# Altium schematic symbol library MPU-6050.SchLib: 1 symbol
Pins are listed as number, name and electrical type; pins without a type are passive.

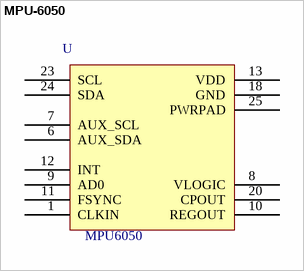
[diagram p0: symbol MPU-6050]

## MPU-6050
designator U  value MPU6050  (hidden comment: *)
Manufacturer: Invensense; Spec: Tri-Axis Gyroscope, Tri-Axis Accelerometer; Farnell Code: 1864742; Manufacturer Code: MPU-6050; Unit Price: 27,79 €
footprint QFN-24
pins: 1 CLKIN, 6 AUX_SDA, 7 AUX_SCL, 8 VLOGIC, 9 AD0, 10 REGOUT, 11 FSYNC, 12 INT, 13 VDD, 18 GND, 20 CPOUT, 23 SCL, 24 SDA, 25 PWRPAD